# EAGLE library part ADUM1310 (library digital)
ADUM1310: Triple digital isolator (Analog Devices) +5V, 10Mbps
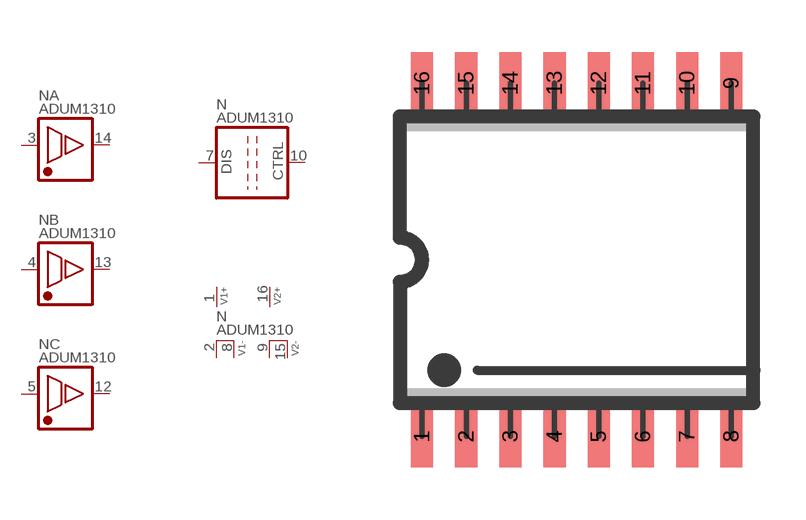
[diagram p61: symbol with the pads of SO16W; footprint SO16W]

Designator prefix N; gates A=ISO1 B=ISO1 C=ISO1 P=V+2--+2- D=ADUM1310

## ADUM1310  [SO16W]
1  P:V1+  pwr
2  P:V1-  pwr
3  A:IN  in
4  B:IN  in
5  C:IN  in
7  D:DIS  in
8  P:V1-  pwr
9  P:V2-  pwr
10  D:CTRL  in
12  C:OUT  out
13  B:OUT  out
14  A:OUT  out
15  P:V2-  pwr
16  P:V2+  pwr

## Footprint SO16W (pad centres in mm)
SO-16, SMD wide SOIC IC package, 16 pins, wide
smd 0.635 x 1.778: 1 -4.445,-5.08; 2 -3.175,-5.08; 3 -1.905,-5.08; 4 -0.635,-5.08; 5 0.635,-5.08; 6 1.905,-5.08; 7 3.175,-5.08; 8 4.445,-5.08; 9 4.445,5.08; 10 3.175,5.08; 11 1.905,5.08; 12 0.635,5.08; 13 -0.635,5.08; 14 -1.905,5.08; 15 -3.175,5.08; 16 -4.445,5.08